# Altium schematic symbol library TZS4XXX-GS08.Schlib: 1 symbol
Pins are listed as number, name and electrical type; pins without a type are passive.

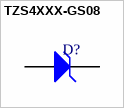
[diagram p0: symbol TZS4XXX-GS08]

## TZS4XXX-GS08
designator D?
Diodes - Zener - Single Diode SOD80 500mW
pins: 1 A, 2 K
1 alternate drawing of the same symbol